# Altium schematic symbol library SCH - DIODES - DIODE ARRAY DUAL SERIES.Schlib: 1 symbol
Pins are listed as number, name and electrical type; pins without a type are passive.

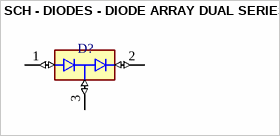
[diagram p0: symbol SCH - DIODES - DIODE ARRAY DUAL SERIES]

## SCH - DIODES - DIODE ARRAY DUAL SERIES
designator D?
footprint SOT23_L
pins: 1 A1 (io), 2 C2 (io), 3 COM (io)